# EAGLE library part PINHD_1_10_HALF (library lazurite)
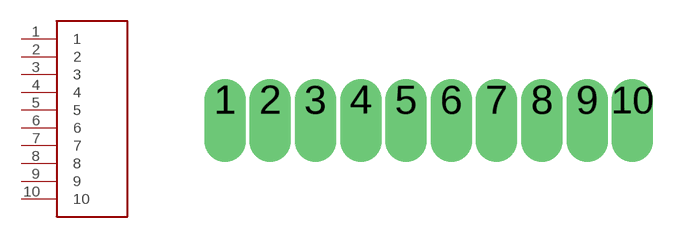
[diagram p2: symbol with the pads of PINHD_1X10_HALF; footprint PINHD_1X10_HALF]

Designator prefix -

## PINHD_1_10_HALF  [PINHD_1X10_HALF]
1  1
2  2
3  3
4  4
5  5
6  6
7  7
8  8
9  9
10  10

## Footprint PINHD_1X10_HALF (pad centres in mm)
drill 0.65 pad 0.8 offset: 1 0,0; 2 1.27,0; 3 2.54,0; 4 3.81,0; 5 5.08,0; 6 6.35,0; 7 7.62,0; 8 8.89,0; 9 10.16,0; 10 11.43,0